# Altium footprint library DTM13-12PA.PcbLib: 1 footprints
Each footprint in its own frame and in the unit in brackets; x right, y up, seen from the top. Pads: shape width x height; smd on the part's side, far side on the other; paste and mask are expansions set on the pad; w line width, h text height; cw(c..) or ccw(c..) is an arc to the next point about the centre after c.
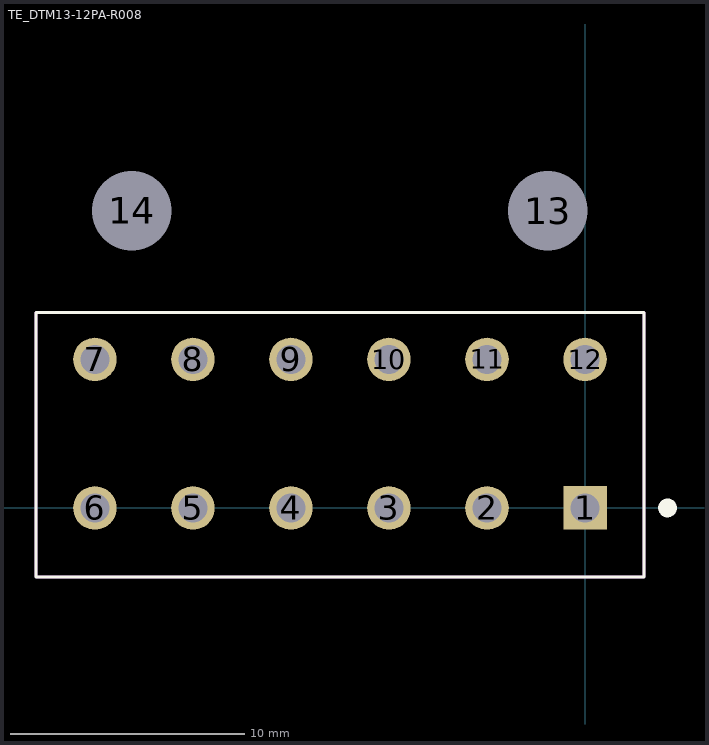
[diagram p0: the footprint, top view; thin cyan lines are the x and y axes]

## TE_DTM13-12PA-R008 [mm]
pads (14):
  rect 1.86x1.86 hole 1.24: 1(0,0)
  round 1.86 hole 1.24: 2(-4.19,0) 3(-8.38,0) 4(-12.57,0) 5(-16.76,0) 6(-20.95,0) 7(-20.95,6.35) 8(-16.76,6.35) 9(-12.57,6.35) 10(-8.38,6.35) 11(-4.19,6.35) 12(0,6.35)
  round 2.54 hole 3.4: 13(-1.59,12.7)
  round 2.54 hole 3.4 unplated: 14(-19.37,12.7)
Top Overlay:
  circle w0.4: c3.525,0 r0.2
  lines w0.127: -23.475,-2.95 -23.475,8.35 2.525,8.35 2.525,-2.95 -23.475,-2.95
Mechanical 1:
  circle w0.4: c0,0 r0.2
  lines w0.127: -23.475,-2.95 -23.475,8.35 2.525,8.35 2.525,-2.95 -23.475,-2.95
3D body "c-dtm13-12pa-99-3d.stp": height 34.51, standoff -3.08, extent -40.955,-2.358 20.005,35.856